# Altium schematic symbol library Si7021-A20.SchLib: 1 symbol
Pins are listed as number, name and electrical type; pins without a type are passive.

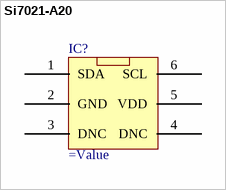
[diagram p0: symbol Si7021-A20]

## Si7021-A20
designator IC?
=Description
footprint DFN-6
pins: 1 SDA, 2 GND, 3 DNC, 4 DNC, 5 VDD, 6 SCL